# Altium integrated library NSC Legacy.IntLib: 687 symbols (part 10 of 17)
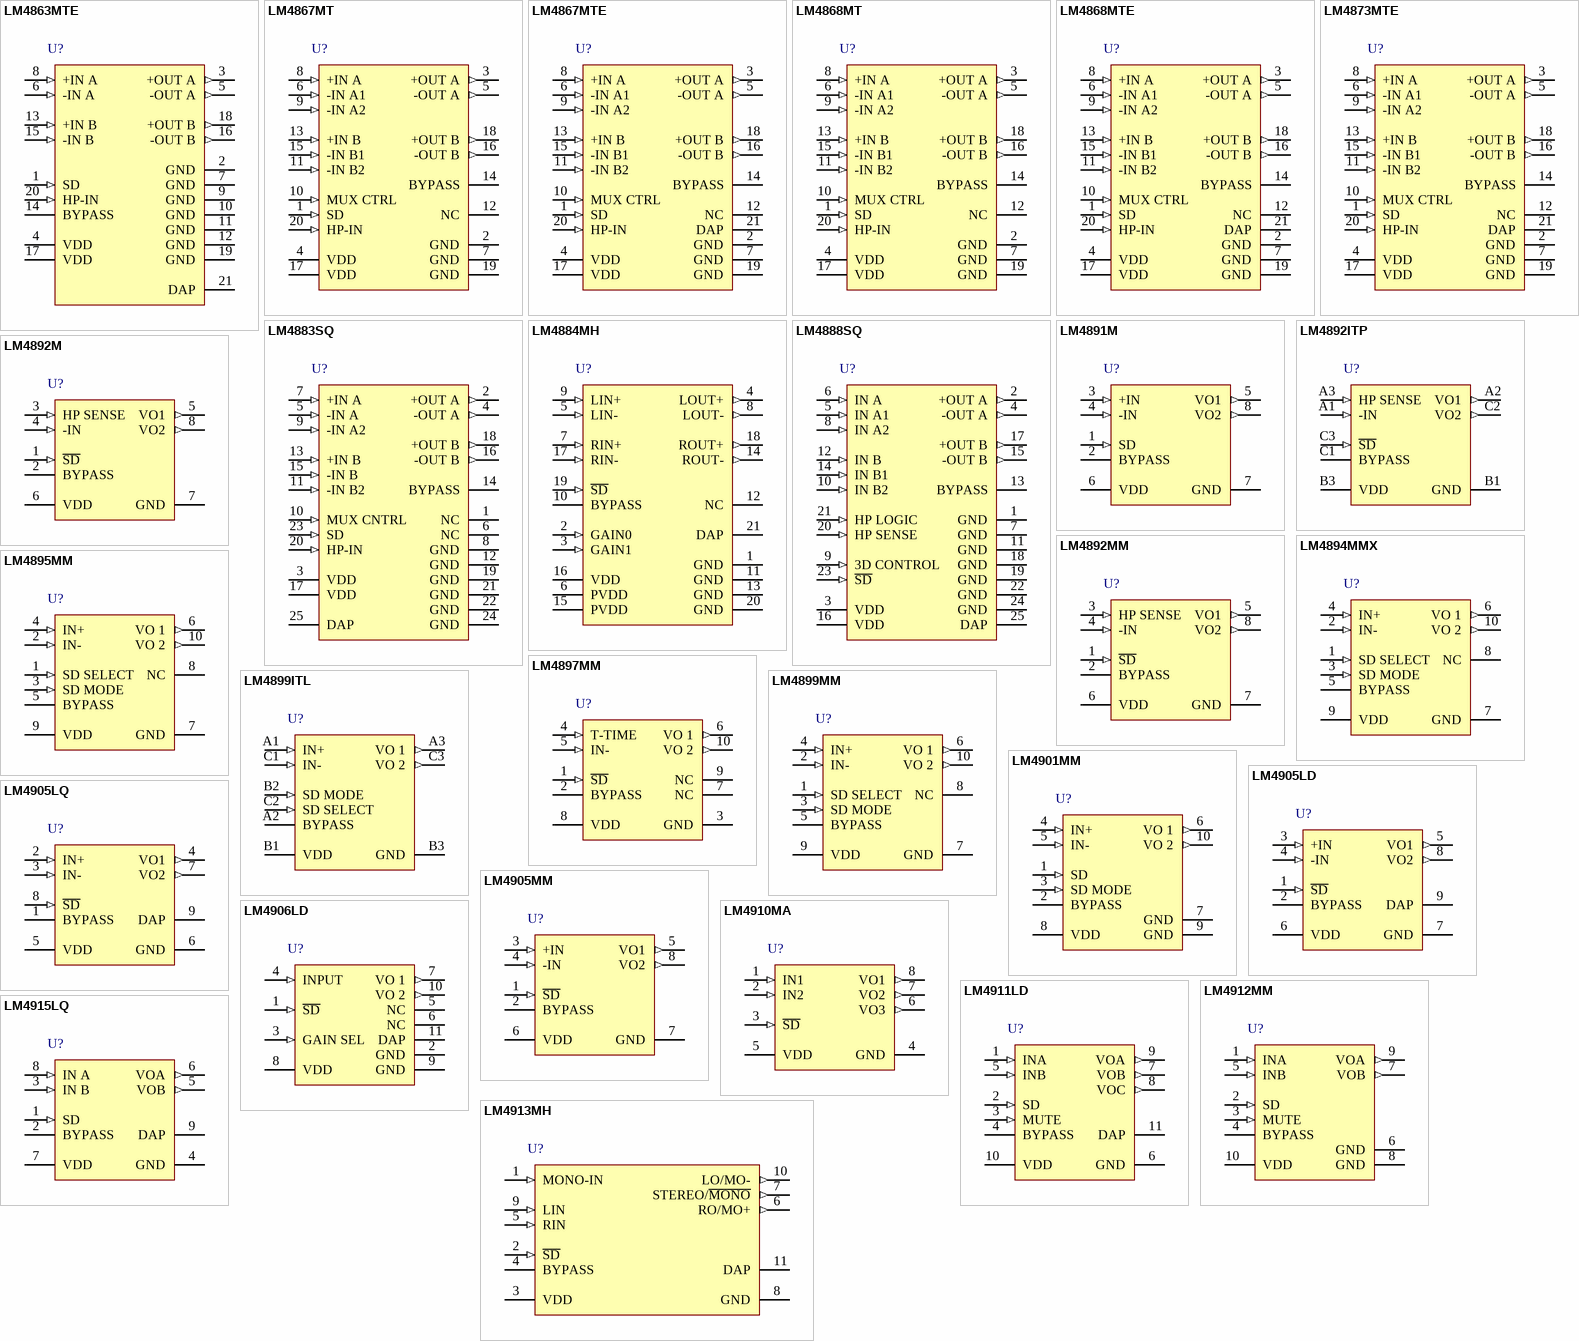
[diagram p33: symbols LM4863MTE to LM4915LQ]

## LM4905LQ
designator U?
1W Audio Power Amplifier, 9-pin LLP; PartNumber: LM4905LQ; Manufacturer: National Semiconductor; PackageTopMarking: XTT*GA6; CompType: Audio IC; Published: 4-Dec-2008; DatasheetVersion: Jul-2003; PackageVersion: revB, Nov-2002; PackageReference: LQB08A; Publisher: Altium Limited; PackageDescription: LLP, Plastic, Quad, 2 x 2 x 0.75mm Body, 8 Lead, 0.65mm Pitch; Supplier 1: Farnell; Supplier Part Number 1: 1312782; RoHS: Y; PinCount: 8; ComponentLink1Description: LM4905 Datasheet; ComponentLink1URL: http://www.national.com/ds/LM/LM4905.pdf; ComponentLink2Description: LM4905 Web Page; ComponentLink2URL: http://www.national.com/pf/LM/LM4905.html; ComponentLink3Description: LQB08A Package Page; ComponentLink3URL: http://www.national.com/packaging/folders/lqb08a.html
footprint LQB08A (PQFN, 8-Leads, Body 2x2mm, Pitch 0.65mm, NSC Recommended)
pins: 1 BYPASS, 2 IN+ (in), 3 IN- (in), 4 VO1 (out), 5 VDD (power), 6 GND (power), 7 VO2 (out), 8 ~{SD} (in), 9 DAP (power)

## LM4905MM
designator U?
1W Audio Power Amplifier, 8-pin Mini SOIC; PartNumber: LM4905MM; Manufacturer: National Semiconductor; PackageTopMarking: ZXTT*GB4; CompType: Audio IC; Published: 4-Dec-2008; DatasheetVersion: Jul-2003; PackageVersion: revF, Apr-2008; PackageReference: MUA08A; Publisher: Altium Limited; PackageDescription: MINI SOIC, .118 x .118 x .034in, 8 Lead, .0256in Pitch; Supplier 1: Farnell; Supplier Part Number 1: 1312783; RoHS: Y; PinCount: 8; Code_JEDEC: MO-187-AA; ComponentLink1Description: LM4905 Datasheet; ComponentLink1URL: http://www.national.com/ds/LM/LM4905.pdf; ComponentLink2Description: LM4905 Web Page; ComponentLink2URL: http://www.national.com/pf/LM/LM4905.html; ComponentLink3Description: MUA08A Package Page; ComponentLink3URL: http://www.national.com/packaging/folders/mua08a.html
footprint MUA08A_N (TSOP, 8-Leads, Body 3x3mm, Pitch 0.65mm, IPC Medium Density)
footprint MUA08A_L (TSOP, 8-Leads, Body 3x3mm, Pitch 0.65mm, IPC High Density)
footprint MUA08A_M (TSOP, 8-Leads, Body 3x3mm, Pitch 0.65mm, IPC Low Density)
pins: 1 ~{SD} (in), 2 BYPASS, 3 +IN (in), 4 -IN (in), 5 VO1 (out), 6 VDD (power), 7 GND (power), 8 VO2 (out)

## LM4906LD
designator U?
1W, Bypass-Capacitor-less Audio Power Amplifier with Internal Selectable Gain, 11-pin LLP; PartNumber: LM4906LD; Manufacturer: National Semiconductor; PackageTopMarking: ZXYTT*L4906; CompType: Audio IC; Published: 4-Dec-2008; DatasheetVersion: Jan-2005; PackageVersion: revB, Jun-2003; PackageReference: LDA10B; Publisher: Altium Limited; PackageDescription: LLP, Plastic, Dual, 3 x 4 x 0.75mm Body, 10 Lead, 0.5mm Pitch; RoHS: Y; PinCount: 10; Code_JEDEC: MO-229-WEGD; ComponentLink1Description: LM4906 Datasheet; ComponentLink1URL: http://www.national.com/ds/LM/LM4906.pdf; ComponentLink2Description: LM4906 Web Page; ComponentLink2URL: http://www.national.com/pf/LM/LM4906.html; ComponentLink3Description: LDA10B Package Page; ComponentLink3URL: http://www.national.com/packaging/folders/lda10b.html
footprint LDA10B (PSON, 10-Leads, Body 3x4mm, Pitch 0.5mm, NSC Recommended)
pins: 1 ~{SD} (in), 2 GND (power), 3 GAIN SEL (in), 4 INPUT (in), 5 NC, 6 NC, 7 VO 1 (out), 8 VDD (power), 9 GND (power), 10 VO 2 (out), 11 DAP (power)

## LM4910MA
designator U?
Output Capacitor-less Stereo 35mW Headphone Amplifier, 8-pin Narrow SOIC; PartNumber: LM4910MA; Manufacturer: National Semiconductor; PackageTopMarking: NSZXTT*LM49*10MA; CompType: Audio IC; Published: 4-Dec-2008; DatasheetVersion: Jan-2007; PackageVersion: revM, May-2009; PackageReference: M08A; Publisher: Altium Limited; PackageDescription: SOIC Narrow, 4.9 x 3.9 x 1.45mm, 8 Lead, 1.27mm Pitch; RoHS: Y; PinCount: 8; Code_JEDEC: MS-012-AA; Code_IPC: SOIC127P600-8; ComponentLink1Description: LM4910 Datasheet; ComponentLink1URL: http://www.national.com/ds/LM/LM4910.pdf; ComponentLink2Description: LM4910 Web Page; ComponentLink2URL: http://www.national.com/pf/LM/LM4910.html; ComponentLink3Description: M08A Package Page; ComponentLink3URL: http://www.national.com/packaging/folders/m08a.html
footprint M08A_N (SOIC, 8-Leads, Body 4.9x3.9mm, Pitch 1.27mm, IPC Medium Density)
footprint M08A_L (SOIC, 8-Leads, Body 4.9x3.9mm, Pitch 1.27mm, IPC High Density)
footprint M08A_M (SOIC, 8-Leads, Body 4.9x3.9mm, Pitch 1.27mm, IPC Low Density)
pins: 1 IN1 (in), 2 IN2 (in), 3 ~{SD} (in), 4 GND (power), 5 VDD (power), 6 VO3 (out), 7 VO2 (out), 8 VO1 (out)

## LM4911LD
designator U?
Stereo 40mW Low Noise Headphone Amplifier with Selectable Capacitive Coupled or OCL Output, 11-pin LLP; PartNumber: LM4911LD; Manufacturer: National Semiconductor; PackageTopMarking: ZXYTT*L4911; CompType: Audio IC; Published: 4-Dec-2008; DatasheetVersion: Jul-2008; PackageVersion: revB, Jan-2003; PackageReference: LDA10A; Publisher: Altium Limited; PackageDescription: LLP, Plastic, Dual, 3 x 3 x 0.75mm Body, 10 Lead, 0.5mm Pitch; RoHS: Y; PinCount: 10; ComponentLink1Description: LM4911 Datasheet; ComponentLink1URL: http://www.national.com/ds/LM/LM4911.pdf; ComponentLink2Description: LM4911 Web Page; ComponentLink2URL: http://www.national.com/pf/LM/LM4911.html; ComponentLink3Description: LDA10A Package Page; ComponentLink3URL: http://www.national.com/packaging/folders/lda10a.html
footprint LDA10A (PSON, 10-Leads, Body 3x3mm, Pitch 0.5mm, NSC Recommended)
pins: 1 INA (in), 2 SD (in), 3 MUTE (in), 4 BYPASS, 5 INB (in), 6 GND (power), 7 VOB (out), 8 VOC (out), 9 VOA (out), 10 VDD (power), 11 DAP (power)

## LM4912MM
designator U?
Stereo 40mW Low Noise Headphone Amplifier, 10-pin MSOP; PartNumber: LM4912MM; Manufacturer: National Semiconductor; PackageTopMarking: ZXTT*GA7; CompType: Audio IC; Published: 4-Dec-2008; DatasheetVersion: Jun-2008; PackageVersion: revB, Jul-2003; PackageReference: MUB10A; Publisher: Altium Limited; PackageDescription: Mini-SO, Molded, .118 x .118 x .034in Body, 10 Lead, .0197in Pitch; RoHS: Y; PinCount: 10; Code_JEDEC: MO-187-BA; ComponentLink1Description: LM4912 Datasheet; ComponentLink1URL: http://www.national.com/ds/LM/LM4912.pdf; ComponentLink2Description: LM4912 Web Page; ComponentLink2URL: http://www.national.com/pf/LM/LM4912.html; ComponentLink3Description: MUB10A Package Page; ComponentLink3URL: http://www.national.com/packaging/folders/mub10a.html
footprint MUB10A_N (TSSOP, 10-Leads, Body 3x3mm, Pitch 0.5mm, IPC Medium Density)
footprint MUB10A_L (TSSOP, 10-Leads, Body 3x3mm, Pitch 0.5mm, IPC High Density)
footprint MUB10A_M (TSSOP, 10-Leads, Body 3x3mm, Pitch 0.5mm, IPC Low Density)
pins: 1 INA (in), 2 SD (in), 3 MUTE (in), 4 BYPASS, 5 INB (in), 6 GND (power), 7 VOB (out), 8 GND (power), 9 VOA (out), 10 VDD (power)

## LM4913MH
designator U?
2W Monaural, 90mW Stereo Headphone Audio Amplifier, 11-pin TSSOP-EP; PartNumber: LM4913MH; Manufacturer: National Semiconductor; PackageTopMarking: ZXTT*4913; CompType: Audio IC; Published: 4-Dec-2008; DatasheetVersion: Apr-2008; PackageVersion: revA, Feb-2002; PackageReference: MXF10A; Publisher: Altium Limited; PackageDescription: Molded TSSOP, Exposed Pad, 3 x 3 x .85mm Body, 10 Lead, 0.5mm Pitch; RoHS: Y; PinCount: 10; Code_JEDEC: MO-187-BA; ComponentLink1Description: LM4913 Datasheet; ComponentLink1URL: http://www.national.com/ds/LM/LM4913.pdf; ComponentLink2Description: LM4913 Web Page; ComponentLink2URL: http://www.national.com/pf/LM/LM4913.html; ComponentLink3Description: MXF10A Package Page; ComponentLink3URL: http://www.national.com/packaging/folders/mxf10a.html
footprint MXF10A_N (TSSOP, 10-Leads, Body 3x3mm, Pitch 0.5mm, Exposed Pad, IPC Medium Density)
footprint MXF10A_L (TSSOP, 10-Leads, Body 3x3mm, Pitch 0.5mm, Exposed Pad, IPC High Density)
footprint MXF10A_M (TSSOP, 10-Leads, Body 3x3mm, Pitch 0.5mm, Exposed Pad, IPC Low Density)
pins: 1 MONO-IN (in), 2 ~{SD} (in), 3 VDD (power), 4 BYPASS, 5 RIN (in), 6 RO/MO+ (out), 7 STEREO/~{MONO} (out), 8 GND (power), 9 LIN (in), 10 LO/MO- (out), 11 DAP (power)

## LM4915LQ
designator U?
Pseudo-Differential Mono Headphone Amplifier with Fixed 6dB Gain, 9-pin LLP; PartNumber: LM4915LQ; Manufacturer: National Semiconductor; PackageTopMarking: XTT*GA5; CompType: Audio IC; Published: 4-Dec-2008; DatasheetVersion: May-2003; PackageVersion: revB, Nov-2002; PackageReference: LQB08A; Publisher: Altium Limited; PackageDescription: LLP, Plastic, Quad, 2 x 2 x 0.75mm Body, 8 Lead, 0.65mm Pitch; RoHS: Y; PinCount: 8; ComponentLink1Description: LM4915 Datasheet; ComponentLink1URL: http://www.national.com/ds/LM/LM4915.pdf; ComponentLink2Description: LM4915 Web Page; ComponentLink2URL: http://www.national.com/pf/LM/LM4915.html; ComponentLink3Description: LQB08A Package Page; ComponentLink3URL: http://www.national.com/packaging/folders/lqb08a.html
footprint LQB08A (PQFN, 8-Leads, Body 2x2mm, Pitch 0.65mm, NSC Recommended)
pins: 1 SD (in), 2 BYPASS, 3 IN B (in), 4 GND (power), 5 VOB (out), 6 VOA (out), 7 VDD (power), 8 IN A (in), 9 DAP (power)

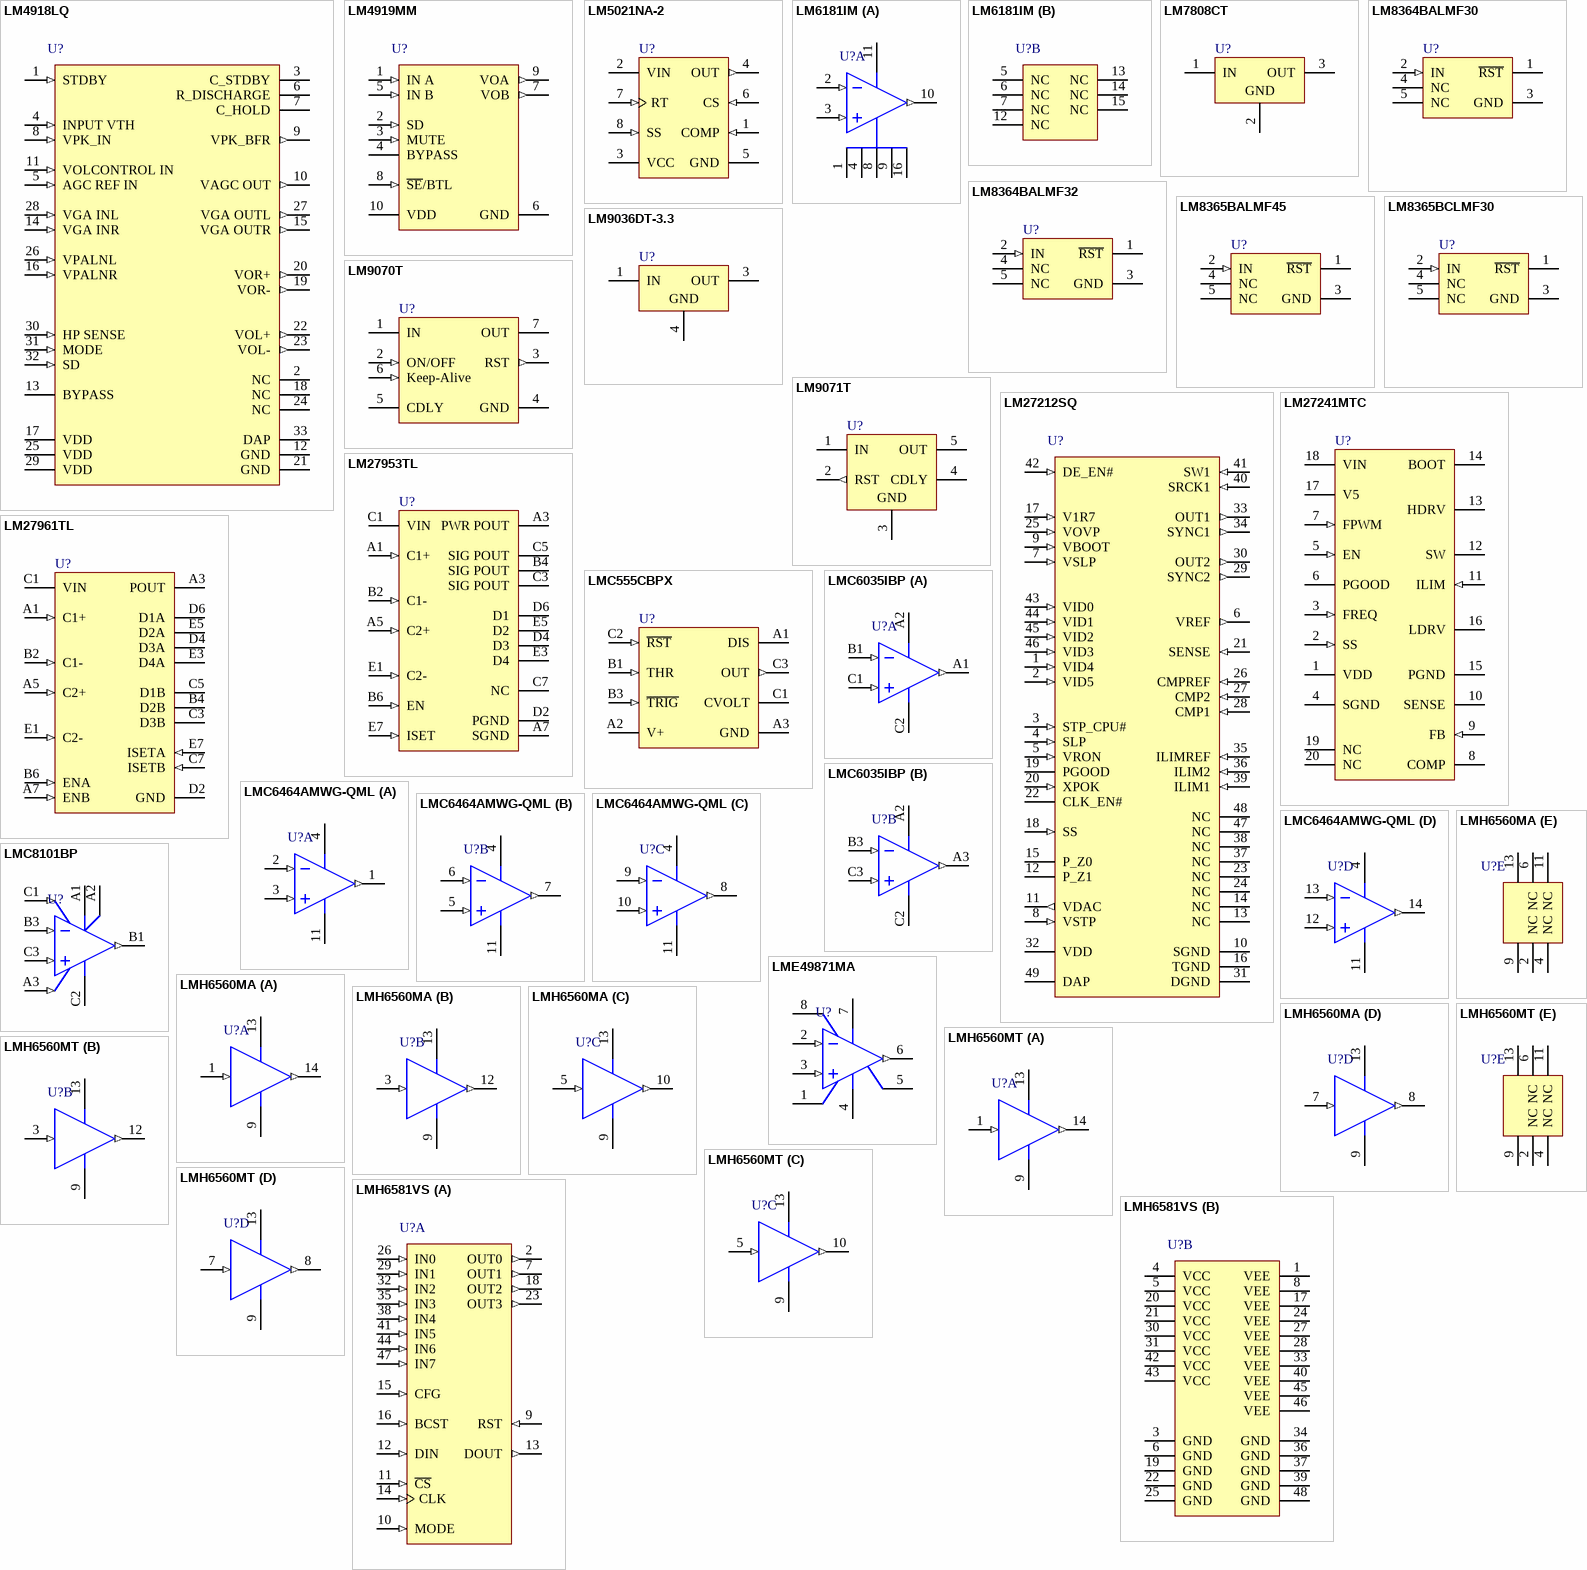
[diagram p15: symbols LM4918LQ to LMH6581VS]

## LM4918LQ
designator U?
Stereo Audio Amp with AGC Control, 33-pin LLP; PartNumber: LM4918LQ; Manufacturer: National Semiconductor; PackageTopMarking: NS*UZXYTT*L4918LQ; CompType: Audio IC; Published: 4-Dec-2008; DatasheetVersion: Feb-2004; PackageVersion: revA, Jun-2001; PackageReference: LQA32B; Publisher: Altium Limited; PackageDescription: LLP, Plastic, Quad, 6 x 5 x 0.8mm Body, 32 Lead, 0.5mm Pitch; Supplier 1: Farnell; Supplier Part Number 1: 8181179; RoHS: Y; PinCount: 32; Code_JEDEC: MO-220-WJHD; ComponentLink1Description: LM4918 Datasheet; ComponentLink1URL: http://www.national.com/ds/LM/LM4918.pdf; ComponentLink2Description: LM4918 Web Page; ComponentLink2URL: http://www.national.com/pf/LM/LM4918.html; ComponentLink3Description: LQA32B Package Page; ComponentLink3URL: http://www.national.com/packaging/folders/lqa32b.html
footprint LQA32B (PQFN, 32-Leads, Body 6x5mm, Pitch 0.5mm, NSC Recommended)
pins: 1 STDBY (in), 2 NC, 3 C_STDBY, 4 INPUT VTH (in), 5 AGC REF IN (in), 6 R_DISCHARGE, 7 C_HOLD, 8 VPK_IN (in), 9 VPK_BFR (out), 10 VAGC OUT (out), 11 VOLCONTROL IN (in), 12 GND (power), 13 BYPASS, 14 VGA INR (in), 15 VGA OUTR (out), 16 VPALNR (in), 17 VDD (power), 18 NC, 19 VOR- (out), 20 VOR+ (out), 21 GND (power), 22 VOL+ (out), 23 VOL- (out), 24 NC, 25 VDD (power), 26 VPALNL (in), 27 VGA OUTL (out), 28 VGA INL (in), 29 VDD (power), 30 HP SENSE (in), 31 MODE (in), 32 SD (in), 33 DAP (power)

## LM4919MM
designator U?
1.5V, Mono 85mW BTL Output, 14mW Stereo Headphone Audio Amplifier, 10-pin MSOP; PartNumber: LM4919MM; Manufacturer: National Semiconductor; PackageTopMarking: ZXTT*GB6; CompType: Audio IC; Published: 4-Dec-2008; DatasheetVersion: May-2004; PackageVersion: revB, Jul-2003; PackageReference: MUB10A; Publisher: Altium Limited; PackageDescription: Mini-SO, Molded, .118 x .118 x .034in Body, 10 Lead, .0197in Pitch; Supplier 1: Farnell; Supplier Part Number 1: 8181187; RoHS: Y; PinCount: 10; Code_JEDEC: MO-187-BA; ComponentLink1Description: LM4919 Datasheet; ComponentLink1URL: http://www.national.com/ds/LM/LM4919.pdf; ComponentLink2Description: LM4919 Web Page; ComponentLink2URL: http://www.national.com/pf/LM/LM4919.html; ComponentLink3Description: MUB10A Package Page; ComponentLink3URL: http://www.national.com/packaging/folders/mub10a.html
footprint MUB10A_N (TSSOP, 10-Leads, Body 3x3mm, Pitch 0.5mm, IPC Medium Density)
footprint MUB10A_L (TSSOP, 10-Leads, Body 3x3mm, Pitch 0.5mm, IPC High Density)
footprint MUB10A_M (TSSOP, 10-Leads, Body 3x3mm, Pitch 0.5mm, IPC Low Density)
pins: 1 IN A (in), 2 SD (in), 3 MUTE (in), 4 BYPASS, 5 IN B (in), 6 GND (power), 7 VOB (out), 8 ~{SE}/BTL (in), 9 VOA (out), 10 VDD (power)

## LM5021NA-2
designator U?
AC-DC Current Mode PWM Controller, 8-pin MDIP; PartNumber: LM5021NA-2; Manufacturer: National Semiconductor; PackageTopMarking: NSUZXYTT*LM5021NA*-2; CompType: MiscPower; Published: 4-Dec-2008; DatasheetVersion: Jun-2006; PackageVersion: revG, May-2006; PackageReference: N08E; Publisher: Altium Limited; PackageDescription: MDIP, .365 x .250 x .130in, 8 Lead, .100in Pitch; Supplier 1: Farnell; Supplier Part Number 1: 1286764; RoHS: Y; PinCount: 8; Code_JEDEC: MS-001-BA; ComponentLink1Description: LM5021 Datasheet; ComponentLink1URL: http://www.national.com/ds/LM/LM5021.pdf; ComponentLink2Description: LM5021 Web Page; ComponentLink2URL: http://www.national.com/pf/LM/LM5021.html; ComponentLink3Description: N08E Package Page; ComponentLink3URL: http://www.national.com/packaging/folders/n08e.html
footprint N08E (DIP, 8-Leads, Row Spacing 7.62mm, Pitch 2.54mm, Body 9.91x6.35mm)
pins: 1 COMP (in), 2 VIN (power), 3 VCC (power), 4 OUT (out), 5 GND (power), 6 CS (in), 7 RT (in), 8 SS (in)

## LM6181IM
designator U?
100 mA, 100 MHz Current Feedback Amplifier, 16-pin Narrow SOIC; PartNumber: LM6181IM; Manufacturer: National Semiconductor; PackageTopMarking: NSUZXYTT*LM6181IM; CompType: Amplifiers; Published: 4-Dec-2008; DatasheetVersion: May-1998; PackageVersion: revJ, Aug-1995; PackageReference: M16A; Publisher: Altium Limited; PackageDescription: Molded Package, SO, .150in Wide, 16 Lead; Supplier 1: Digi-Key; Supplier Part Number 1: LM6181IM-ND; Supplier 2: Farnell; Supplier Part Number 2: 9486488; RoHS: O; PinCount: 16; Code_JEDEC: MS-012-AC; Code_IPC: SOIC127P600-16; ComponentLink1Description: LM6181 Datasheet; ComponentLink1URL: http://www.national.com/ds/LM/LM6181.pdf; ComponentLink2Description: LM6181 Web Page; ComponentLink2URL: http://www.national.com/pf/LM/LM6181.html; ComponentLink3Description: M16A Package Page; ComponentLink3URL: http://www.national.com/packaging/folders/m16a.html
footprint M16A_N (SOIC, 16-Leads, Body 9.9x3.9mm, Pitch 1.27mm, IPC Medium Density)
footprint M16A_L (SOIC, 16-Leads, Body 9.9x3.9mm, Pitch 1.27mm, IPC High Density)
footprint M16A_M (SOIC, 16-Leads, Body 9.9x3.9mm, Pitch 1.27mm, IPC Low Density)
part A pins: 1 V- (power), 2 IN- (in), 3 IN+ (in), 4 V- (power), 8 V- (power), 9 V- (power), 10 OUT (out), 11 V+ (power), 16 V- (power)
part B pins: 5 NC, 6 NC, 7 NC, 12 NC, 13 NC, 14 NC, 15 NC

## LM7808CT
designator U?
Series 3-Terminal Positive Regulators, 3-pin TO-220; PartNumber: LM7808CT; Manufacturer: National Semiconductor; PackageTopMarking: NSUZXYTTE#*LM7808CT; CompType: LDO IC; Published: 4-Dec-2008; DatasheetVersion: Jul-2006; PackageVersion: revL, Jan-1992; PackageReference: T03B; Publisher: Altium Limited; PackageDescription: TO-220, Molded, 3 Lead, Straight; Supplier 1: Farnell; Supplier Part Number 1: 9490248; RoHS: O; PinCount: 3; ComponentLink1Description: LM340 Datasheet; ComponentLink1URL: http://www.national.com/ds/LM/LM340.pdf; ComponentLink2Description: LM340 Web Page; ComponentLink2URL: http://www.national.com/pf/LM/LM340.html; ComponentLink3Description: T03B Package Page; ComponentLink3URL: http://www.national.com/packaging/folders/t03b.html
footprint T03B (TO, Thru-Hole, Vertical, Heatsink Mounted; 3 In-Line Leads; Pitch 2.54 mm)
pins: 1 IN (power), 2 GND (power), 3 OUT (power)

## LM8364BALMF30
designator U?
Micropower Undervoltage Sensing Circuits, Open Drain Active Low Output, 3.0V Threshold, 5-pin SOT-23; PartNumber: LM8364BALMF30; Manufacturer: National Semiconductor; PackageTopMarking: F05A*XTT; PowerWise: N; CompType: MiscPower; Published: 29-May-2009; DatasheetVersion: Mar-2005; PackageVersion: revD, Aug-2008; PackageReference: MF05A; Publisher: Altium Limited; PackageDescription: Molded SOT-23, .115 x .063 x .040 in Body, 5 Lead, .0375 in Pitch; Supplier 1: Farnell; Supplier Part Number 1: 9779493; RoHS: Y; PinCount: 5; ComponentLink1Description: LM8364 Datasheet; ComponentLink1URL: http://www.national.com/ds/LM/LM8364.pdf; ComponentLink2Description: LM8364 Web Page; ComponentLink2URL: http://www.national.com/mpf/LM/LM8364.html; ComponentLink3Description: MF05A Package Page; ComponentLink3URL: http://www.national.com/packaging/folders/mf05a.html
footprint MF05A_N (SOT23, 5-Leads, Body 2.9x1.6mm, Pitch 0.95mm, Lead Span 2.8mm, IPC Medium Density)
footprint MF05A_L (SOT23, 5-Leads, Body 2.9x1.6mm, Pitch 0.95mm, Lead Span 2.8mm, IPC High Density)
footprint MF05A_M (SOT23, 5-Leads, Body 2.9x1.6mm, Pitch 0.95mm, Lead Span 2.8mm, IPC Low Density)
pins: 1 ~{RST} (oc), 2 IN (in), 3 GND (power), 4 NC, 5 NC

## LM8364BALMF32
designator U?
Micropower Undervoltage Sensing Circuits, Open Drain Active Low Output, 3.2V Threshold, 5-pin SOT-23; PartNumber: LM8364BALMF32; Manufacturer: National Semiconductor; PackageTopMarking: F16A*XTT; PowerWise: N; CompType: MiscPower; Published: 4-Dec-2008; DatasheetVersion: Mar-2005; PackageVersion: revD, Aug-2008; PackageReference: MF05A; Publisher: Altium Limited; PackageDescription: Molded SOT-23, .115 x .063 x .040 in Body, 5 Lead, .0375 in Pitch; RoHS: Y; PinCount: 5; ComponentLink1Description: LM8364 Datasheet; ComponentLink1URL: http://www.national.com/ds/LM/LM8364.pdf; ComponentLink2Description: LM8364 Web Page; ComponentLink2URL: http://www.national.com/mpf/LM/LM8364.html; ComponentLink3Description: MF05A Package Page; ComponentLink3URL: http://www.national.com/packaging/folders/mf05a.html
footprint MF05A_N (SOT23, 5-Leads, Body 2.9x1.6mm, Pitch 0.95mm, Lead Span 2.8mm, IPC Medium Density)
footprint MF05A_L (SOT23, 5-Leads, Body 2.9x1.6mm, Pitch 0.95mm, Lead Span 2.8mm, IPC High Density)
footprint MF05A_M (SOT23, 5-Leads, Body 2.9x1.6mm, Pitch 0.95mm, Lead Span 2.8mm, IPC Low Density)
pins: 1 ~{RST} (oc), 2 IN (in), 3 GND (power), 4 NC, 5 NC

## LM8365BALMF45
designator U?
Micropower Undervoltage Sensing Circuits with Programmable Output Delay, 4.5V Threshold, 5-pin SOT-23; PartNumber: LM8365BALMF45; Manufacturer: National Semiconductor; PackageTopMarking: F06A*XTT; PowerWise: N; CompType: MiscPower; Published: 29-May-2009; DatasheetVersion: Mar-2005; PackageVersion: revD, Aug-2008; PackageReference: MF05A; Publisher: Altium Limited; PackageDescription: Molded SOT-23, .115 x .063 x .040 in Body, 5 Lead, .0375 in Pitch; Supplier 1: Farnell; Supplier Part Number 1: 9779540; RoHS: Y; PinCount: 5; ComponentLink1Description: LM8365 Datasheet; ComponentLink1URL: http://www.national.com/ds/LM/LM8365.pdf; ComponentLink2Description: LM8365 Web Page; ComponentLink2URL: http://www.national.com/mpf/LM/LM8365.html; ComponentLink3Description: MF05A Package Page; ComponentLink3URL: http://www.national.com/packaging/folders/mf05a.html
footprint MF05A_N (SOT23, 5-Leads, Body 2.9x1.6mm, Pitch 0.95mm, Lead Span 2.8mm, IPC Medium Density)
footprint MF05A_L (SOT23, 5-Leads, Body 2.9x1.6mm, Pitch 0.95mm, Lead Span 2.8mm, IPC High Density)
footprint MF05A_M (SOT23, 5-Leads, Body 2.9x1.6mm, Pitch 0.95mm, Lead Span 2.8mm, IPC Low Density)
pins: 1 ~{RST} (oc), 2 IN (in), 3 GND (power), 4 NC, 5 NC

## LM8365BCLMF30
designator U?
Micropower Undervoltage Sensing Circuits with Programmable Output Delay, 3.0V Threshold, 5-pin SOT-23; PartNumber: LM8365BCLMF30; Manufacturer: National Semiconductor; PackageTopMarking: F02A*XTT; PowerWise: N; CompType: MiscPower; Published: 29-May-2009; DatasheetVersion: Mar-2005; PackageVersion: revD, Aug-2008; PackageReference: MF05A; Publisher: Altium Limited; PackageDescription: Molded SOT-23, .115 x .063 x .040 in Body, 5 Lead, .0375 in Pitch; Supplier 1: Farnell; Supplier Part Number 1: 9779531; RoHS: O; PinCount: 5; ComponentLink1Description: LM8365 Datasheet; ComponentLink1URL: http://www.national.com/ds/LM/LM8365.pdf; ComponentLink2Description: LM8365 Web Page; ComponentLink2URL: http://www.national.com/mpf/LM/LM8365.html; ComponentLink3Description: MF05A Package Page; ComponentLink3URL: http://www.national.com/packaging/folders/mf05a.html
footprint MF05A_N (SOT23, 5-Leads, Body 2.9x1.6mm, Pitch 0.95mm, Lead Span 2.8mm, IPC Medium Density)
footprint MF05A_L (SOT23, 5-Leads, Body 2.9x1.6mm, Pitch 0.95mm, Lead Span 2.8mm, IPC High Density)
footprint MF05A_M (SOT23, 5-Leads, Body 2.9x1.6mm, Pitch 0.95mm, Lead Span 2.8mm, IPC Low Density)
pins: 1 ~{RST} (oc), 2 IN (in), 3 GND (power), 4 NC, 5 NC

## LM9036DT-3.3
designator U?
Ultra-Low Quiescent Current Voltage Regulator, 3-pin TO-252; PartNumber: LM9036DT-3.3; Manufacturer: National Semiconductor; PackageTopMarking: NSUZXYTT*LM9036D*T-3.3; CompType: LDO IC; Published: 4-Dec-2008; DatasheetVersion: Jul-2008; PackageVersion: revD, Feb-2009; PackageReference: TD03B; Publisher: Altium Limited; PackageDescription: TO252, Molded, Jedec, 6.8 x 6.10 x 2.30mm Body, 3 Lead, 2.28mm Pitch, Surface Mount; Supplier 1: Digi-Key; Supplier Part Number 1: LM9036DT-3.3-ND; RoHS: N; PinCount: 3; Code_JEDEC: TO-252-AA; ComponentLink1Description: LM9036 Datasheet; ComponentLink1URL: http://www.national.com/ds/LM/LM9036.pdf; ComponentLink2Description: LM9036 Web Page; ComponentLink2URL: http://www.national.com/pf/LM/LM9036.html; ComponentLink3Description: TD03B Package Page; ComponentLink3URL: http://www.national.com/packaging/folders/td03b.html
footprint TD03B_N (D-PAK, 4-Leads, Body 6.1x6.6mm, Pitch 2.29mm, Lead Span 9.7mm, IPC Medium Density)
footprint TD03B_L (D-PAK, 4-Leads, Body 6.1x6.6mm, Pitch 2.29mm, Lead Span 9.7mm, IPC High Density)
footprint TD03B_M (D-PAK, 4-Leads, Body 6.1x6.6mm, Pitch 2.29mm, Lead Span 9.7mm, IPC Low Density)
pins: 1 IN (power), 3 OUT (power), 4 GND (power)

## LM9070T
designator U?
Low-Dropout System Voltage Regulator with Keep-Alive ON/OFF Control, 7-pin TO-220; PartNumber: LM9070T; Manufacturer: National Semiconductor; PackageTopMarking: NSUZXYTTE#*LM9070T; CompType: LDO IC; Published: 4-Dec-2008; DatasheetVersion: Mar-2005; PackageVersion: revC, Apr-1999; PackageReference: TA07B; Publisher: Altium Limited; PackageDescription: TO-220, Molded, .400 x .590 x .180in Body, 7 Lead, .050in Pitch, Staggered; RoHS: Y; PinCount: 7; Code_JEDEC: TO-220-AB; ComponentLink1Description: LM9070 Datasheet; ComponentLink1URL: http://www.national.com/ds/LM/LM9070.pdf; ComponentLink2Description: LM9070 Web Page; ComponentLink2URL: http://www.national.com/pf/LM/LM9070.html; ComponentLink3Description: TA07B Package Page; ComponentLink3URL: http://www.national.com/packaging/folders/ta07b.html
footprint TA07B (TO, Thru-Hole, Vertical, Heatsink Mounted; 7 Bent Staggered Leads; Body 10.2x8.7x4.6mm, Pitch 1.27 mm)
pins: 1 IN (power), 2 ON/OFF (in), 3 RST (out), 4 GND (power), 5 CDLY, 6 Keep-Alive (in), 7 OUT (power)

## LM9071T
designator U?
Low-Dropout System Voltage Regulator with Delayed Rest, 5-pin TO-220; PartNumber: LM9071T; Manufacturer: National Semiconductor; PackageTopMarking: NSUZXYTTE#*LM9071T; CompType: LDO IC; Published: 4-Dec-2008; DatasheetVersion: Mar-2001; PackageVersion: revJ, Jan-1992; PackageReference: T05A; Publisher: Altium Limited; PackageDescription: TO-220, Molded, 5 Lead, Straight; RoHS: O; PinCount: 5; Code_JEDEC: TO-220-AB; ComponentLink1Description: LM9071 Datasheet; ComponentLink1URL: http://www.national.com/ds/LM/LM9071.pdf; ComponentLink2Description: LM9071 Web Page; ComponentLink2URL: http://www.national.com/pf/LM/LM9071.html; ComponentLink3Description: T05A Package Page; ComponentLink3URL: http://www.national.com/packaging/folders/t05a.html
footprint T05A (TO, Thru-Hole, Vertical, Heatsink Mounted; 5 In-Line Leads; Pitch 1.70 mm)
pins: 1 IN (power), 2 RST (out), 3 GND (power), 4 CDLY, 5 OUT (power)

## LM27212SQ
designator U?
Two-Phase Current-Mode Hysteretic Buck Controller, 48-pin LLP; PartNumber: LM27212SQ; Manufacturer: National Semiconductor; PackageTopMarking: NS*UZXYTT*27212SQ; CompType: MiscPower; Published: 4-Dec-2008; DatasheetVersion: Mar-2006; PackageVersion: revB, May-2009; PackageReference: SQA48A; Publisher: Altium Limited; PackageDescription: LLP, Plastic, Quad, 7 x 7 x 0.8mm Body, 48 Lead, 0.5mm Pitch, No Pullback; RoHS: Y; PinCount: 48; Code_JEDEC: MO-220-WKKD-2; ComponentLink1Description: LM27212 Datasheet; ComponentLink1URL: http://www.national.com/ds/LM/LM27212.pdf; ComponentLink2Description: LM27212 Web Page; ComponentLink2URL: http://www.national.com/pf/LM/LM27212.html; ComponentLink3Description: SQA48A Package Page; ComponentLink3URL: http://www.national.com/packaging/folders/sqa48a.html
footprint SQA48A (QFN, 48-Leads, Body 7x7mm, Pitch 0.5mm, NSC Recommended)
pins: 1 VID4 (in), 2 VID5 (in), 3 STP_CPU# (in), 4 SLP (in), 5 VRON (in), 6 VREF (out), 7 VSLP (in), 8 VSTP (in), 9 VBOOT (in), 10 SGND (power), 11 VDAC (out), 12 P_Z1, 13 NC, 14 NC, 15 P_Z0, 16 TGND (power), 17 V1R7 (in), 18 SS (in), 19 PGOOD (oc), 20 XPOK (in), 21 SENSE (in), 22 CLK_EN# (oc), 23 NC, 24 NC, 25 VOVP (in), 26 CMPREF (in), 27 CMP2 (in), 28 CMP1 (in), 29 SYNC2 (out), 30 OUT2 (out), 31 DGND (power), 32 VDD (power), 33 OUT1 (out), 34 SYNC1 (out), 35 ILIMREF (in), 36 ILIM2 (in), 37 NC, 38 NC, 39 ILIM1 (in), 40 SRCK1 (in), 41 SW1 (in), 42 DE_EN# (in), 43 VID0 (in), 44 VID1 (in), 45 VID2 (in), 46 VID3 (in), 47 NC, 48 NC, 49 DAP (power)

## LM27241MTC
designator U?
Synchronous Buck Regulator Controller for Mobile Systems, 20-pin TSSOP; PartNumber: LM27241MTC; Manufacturer: National Semiconductor; PackageTopMarking: NSUZXYTT*LM27241*MTC; PowerWise: N; CompType: Switcher; Published: 4-Dec-2008; DatasheetVersion: May-2005; PackageVersion: revE, Mar-2003; PackageReference: MTC20; Publisher: Altium Limited; PackageDescription: Molded TSSOP, Jedec, 6.5 x 4.4 x 0.9mm Body, 20 Lead, 0.65mm Pitch; Supplier 1: Farnell; Supplier Part Number 1: 1008004; RoHS: Y; PinCount: 20; Code_JEDEC: MO-153-AC; ComponentLink1Description: LM27241 Datasheet; ComponentLink1URL: http://www.national.com/ds/LM/LM27241.pdf; ComponentLink2Description: LM27241 Web Page; ComponentLink2URL: http://www.national.com/pf/LM/LM27241.html; ComponentLink3Description: MTC20 Package Page; ComponentLink3URL: http://www.national.com/packaging/folders/mtc20.html
footprint MTC20_N (TSOP, 20-Leads, Body 6.5x4.4mm, Pitch 0.65mm, IPC Medium Density)
footprint MTC20_L (TSOP, 20-Leads, Body 6.5x4.4mm, Pitch 0.65mm, IPC High Density)
footprint MTC20_M (TSOP, 20-Leads, Body 6.5x4.4mm, Pitch 0.65mm, IPC Low Density)
pins: 1 VDD (power), 2 SS (in), 3 FREQ (in), 4 SGND (power), 5 EN (in), 6 PGOOD (oc), 7 FPWM (in), 8 COMP, 9 FB (in), 10 SENSE, 11 ILIM (in), 12 SW (power), 13 HDRV (power), 14 BOOT, 15 PGND (power), 16 LDRV (power), 17 V5 (power), 18 VIN (power), 19 NC, 20 NC

## LM27953TL
designator U?
White LED Driver with Four LED Current Sinks and 3/2x Switched Capacitor Boost, 18-pin Micro SMD; PartNumber: LM27953TL; Manufacturer: National Semiconductor; PackageTopMarking: XYTT*I SHPB; CompType: Switcher; Published: 4-Dec-2008; DatasheetVersion: Nov-2004; PackageVersion: revD, Jan-2005; PackageReference: TLA18EHA; Publisher: Altium Limited; PackageDescription: Thin Micro SMD, 18 Bump (Large), 0.5mm Pitch; Supplier 1: Farnell; Supplier Part Number 1: 1008005; RoHS: Y; PinCount: 18; ComponentLink1Description: LM27953 Datasheet; ComponentLink1URL: http://www.national.com/ds/LM/LM27953.pdf; ComponentLink2Description: LM27953 Web Page; ComponentLink2URL: http://www.national.com/pf/LM/LM27953.html; ComponentLink3Description: TLA18EHA Package Page; ComponentLink3URL: http://www.national.com/packaging/folders/tla18eha.html
footprint TLA18EHA (Micro SMD, 18-Leads, Body 2.4x2.1mm, Pitch 0.5mm, NSC Recommended)
pins: A1 C1+ (in), A3 PWR POUT (power), A5 C2+ (in), A7 SGND (power), B2 C1- (in), B4 SIG POUT (power), B6 EN (in), C1 VIN (power), C3 SIG POUT (power), C5 SIG POUT (power), C7 NC, D2 PGND (power), D4 D3 (oc), D6 D1 (oc), E1 C2- (in), E3 D4 (oc), E5 D2 (oc), E7 ISET (in)

## LM27961TL
designator U?
Dual-Display White LED Driver with 3/2x Switched Capacitor Boost, 18-pin Micro SMD; PartNumber: LM27961TL; Manufacturer: National Semiconductor; PackageTopMarking: XYTT*I SECB; CompType: Switch Caps; Published: 4-Dec-2008; DatasheetVersion: Nov-2004; PackageVersion: revD, Jan-2005; PackageReference: TLA18EHA; Publisher: Altium Limited; PackageDescription: Thin Micro SMD, 18 Bump (Large), 0.5mm Pitch; Supplier 1: Farnell; Supplier Part Number 1: 1008007; RoHS: Y; PinCount: 18; ComponentLink1Description: LM27961 Datasheet; ComponentLink1URL: http://www.national.com/ds/LM/LM27961.pdf; ComponentLink2Description: LM27961 Web Page; ComponentLink2URL: http://www.national.com/pf/LM/LM27961.html; ComponentLink3Description: TLA18EHA Package Page; ComponentLink3URL: http://www.national.com/packaging/folders/tla18eha.html
footprint TLA18EHA (Micro SMD, 18-Leads, Body 2.4x2.1mm, Pitch 0.5mm, NSC Recommended)
pins: A1 C1+ (in), A3 POUT (power), A5 C2+ (in), A7 ENB (in), B2 C1- (in), B4 D2B (oc), B6 ENA (in), C1 VIN (power), C3 D3B (oc), C5 D1B (oc), C7 ISETB (in), D2 GND (power), D4 D3A (oc), D6 D1A (oc), E1 C2- (in), E3 D4A (oc), E5 D2A (oc), E7 ISETA (in)

## LMC555CBPX
designator U?
CMOS Timer, 8-pin Micro SMD; PartNumber: LMC555CBPX; Manufacturer: National Semiconductor; PackageTopMarking: XVF*I 1; CompType: Analog IC; Published: 4-Dec-2008; DatasheetVersion: May-2006; PackageVersion: revC, Feb-2002; PackageReference: BPA08EFB; Publisher: Altium Limited; PackageDescription: Micro SMD, 8 Bump, 0.5mm Pitch; PinCount: 8; Code_JEDEC: MO-211-BC; ComponentLink1Description: LMC555 Datasheet; ComponentLink1URL: http://www.national.com/ds/LM/LMC555.pdf; ComponentLink2Description: LMC555 Web Page; ComponentLink2URL: http://www.national.com/pf/LM/LMC555.html; ComponentLink3Description: BPA08EFB package page; ComponentLink3URL: http://www.national.com/packaging/folders/bpa08efb.html
footprint BPA08EFB (Micro SMD, 8-Leads, Body 1.41x1.39mm, Pitch 0.5mm, NSC Recommended)
pins: A1 DIS (oc), A2 V+ (power), A3 GND (power), B1 THR (in), B3 ~{TRIG} (in), C1 CVOLT, C2 ~{RST} (in), C3 OUT (out)

## LMC6035IBP
designator U?
Low Power 2.7V Single Supply CMOS Operational Amplifiers, 8-pin Micro SMD; PartNumber: LMC6035IBP; Manufacturer: National Semiconductor; PackageTopMarking: XVA*I 1; Published: 4-Dec-2008; LatestRevisionDate: 13-Jan-2009; LatestRevisionNote: Sim Model Added.; DatasheetVersion: Oct-2002; PackageVersion: revC, Feb-2002; PackageReference: BPA08FFB; Publisher: Altium Limited; PackageDescription: Micro SMD, 8 Bump, 0.5mm Pitch; Supplier 1: Digi-Key; Supplier Part Number 1: LMC6035IBPTR-ND; Supplier 2: Digi-Key; Supplier Part Number 2: LMC6035IBPCT-ND; Supplier 3: Digi-Key; Supplier Part Number 3: LMC6035IBPDKR-ND; RoHS: N; PinCount: 8; CompType: Amplifiers; Code_JEDEC: MO-211-BC; ComponentLink1Description: LMC6035 Datasheet; ComponentLink1URL: http://www.national.com/ds/LM/LMC6035.pdf; ComponentLink2Description: LMC6035 Web Page; ComponentLink2URL: http://www.national.com/pf/LM/LMC6035.html; ComponentLink3Description: BPA08FFB Package Page; ComponentLink3URL: http://www.national.com/packaging/folders/bpa08ffb.html
footprint BPA08FFB (Micro SMD, 8-Leads, Body 1.41x1.41mm, Pitch 0.5mm, NSC Recommended)
simulation model LMC6035 (SUBCKT)
pins on every part: A2 V+ (power), C2 V- (power)
part A pins: A1 OUTA (out), B1 INA- (in), C1 INA+ (in)
part B pins: A3 OUTB (out), B3 INB- (in), C3 INB+ (in)

## LMC6464AMWG-QML
designator U?
Quad Micropower, Rail-to-Rail Input and Output CMOS Operational Amplifier, 14-pin CerPACK; PartNumber: LMC6464AMWG-QML; Manufacturer: National Semiconductor; PackageTopMarking: NSZSSXXYYA*LMC6464AMWG*-QML 5962-*9560302QXA Q; CompType: Amplifiers; Published: 4-Dec-2008; DatasheetVersion: Feb-2004; PackageVersion: revD, Jul-2007; PackageReference: WG14A; Publisher: Altium Limited; PackageDescription: Cerpack, .390 x .250 x .070in, 14 Lead, .050in Pitch, Gull Wing; RoHS: N; PinCount: 14; ComponentLink1Description: LMC6464 Datasheet; ComponentLink1URL: http://www.national.com/ds/LM/LMC6464.pdf; ComponentLink2Description: LMC6464 Web Page; ComponentLink2URL: http://www.national.com/pf/LM/LMC6464.html; ComponentLink3Description: WG14A Package Page; ComponentLink3URL: http://www.national.com/packaging/folders/wg14a.html
footprint WG14A_N (CERPACK, 14-Leads, Body 9.9x6.5mm, Pitch 1.27mm, IPC Medium Density)
footprint WG14A_L (CERPACK, 14-Leads, Body 9.9x6.5mm, Pitch 1.27mm, IPC High Density)
footprint WG14A_M (CERPACK, 14-Leads, Body 9.9x6.5mm, Pitch 1.27mm, IPC Low Density)
pins on every part: 4 V+ (power), 11 V- (power)
part A pins: 1 OUTA (out), 2 INA- (in), 3 INA+ (in)
part B pins: 5 INB+ (in), 6 INB- (in), 7 OUTB (out)
part C pins: 8 OUTC (out), 9 INC- (in), 10 INC+ (in)
part D pins: 12 IND+ (in), 13 IND- (in), 14 OUTD (out)

## LMC8101BP
designator U?
Rail-to-Rail Input and Output, 2.7V Op Amp with Shutdown, 8-pin Micro SMD; PartNumber: LMC8101BP; Manufacturer: National Semiconductor; PackageTopMarking: XVA*I 2; CompType: Amplifiers; Published: 4-Dec-2008; LatestRevisionDate: 13-Jan-2009; LatestRevisionNote: Sim Model Added.; DatasheetVersion: May-2004; PackageVersion: revC, Feb-2002; PackageReference: BPA08FFB; Publisher: Altium Limited; PackageDescription: Micro SMD, 8 Bump, 0.5mm Pitch; Supplier 1: Digi-Key; Supplier Part Number 1: LMC8101BPTR-ND; Supplier 2: Digi-Key; Supplier Part Number 2: LMC8101BPCT-ND; Supplier 3: Digi-Key; Supplier Part Number 3: LMC8101BPDKR-ND; RoHS: N; PinCount: 8; Code_JEDEC: MO-211-BC; ComponentLink1Description: LMC8101 Datasheet; ComponentLink1URL: http://www.national.com/ds/LM/LMC8101.pdf; ComponentLink2Description: LMC8101 Web Page; ComponentLink2URL: http://www.national.com/pf/LM/LMC8101.html; ComponentLink3Description: BPA08FFB Package Page; ComponentLink3URL: http://www.national.com/packaging/folders/bpa08ffb.html
footprint BPA08FFB (Micro SMD, 8-Leads, Body 1.41x1.41mm, Pitch 0.5mm, NSC Recommended)
simulation model LMC8101 (SUBCKT)
pins: A1 V+ (power), A2 V+ (power), A3 SL (in), B1 OUT (out), B3 IN- (in), C1 SD (in), C2 V- (power), C3 IN+ (in)

## LME49871MA
designator U?
High Performance, High Fidelity Current Feedback Audio Operational Amplifier, 8-pin Narrow SOIC; PartNumber: LME49871MA; Manufacturer: National Semiconductor; PackageTopMarking: NSZXTT*L49871*MA; PowerWise: N; CompType: Audio IC; Published: 4-Dec-2008; DatasheetVersion: Apr-2008; PackageVersion: revM, May-2009; PackageReference: M08A; Publisher: Altium Limited; PackageDescription: SOIC Narrow, 4.9 x 3.9 x 1.45mm, 8 Lead, 1.27mm Pitch; RoHS: Y; PinCount: 8; Code_JEDEC: MS-012-AA; Code_IPC: SOIC127P600-8; ComponentLink1Description: LME49871 Datasheet; ComponentLink1URL: http://www.national.com/ds/LM/LME49871.pdf; ComponentLink2Description: LME49871 Web Page; ComponentLink2URL: http://www.national.com/pf/LM/LME49871.html; ComponentLink3Description: M08A Package Page; ComponentLink3URL: http://www.national.com/packaging/folders/m08a.html
footprint M08A_N (SOIC, 8-Leads, Body 4.9x3.9mm, Pitch 1.27mm, IPC Medium Density)
footprint M08A_L (SOIC, 8-Leads, Body 4.9x3.9mm, Pitch 1.27mm, IPC High Density)
footprint M08A_M (SOIC, 8-Leads, Body 4.9x3.9mm, Pitch 1.27mm, IPC Low Density)
pins: 1 NC, 2 -IN (in), 3 +IN (in), 4 V- (power), 5 NC, 6 OUTPUT (out), 7 V+ (power), 8 NC

## LMH6560MA
designator U?
Quad, High-Speed, Closed-Loop Buffer, 14-pin Narrow SOIC; PartNumber: LMH6560MA; Manufacturer: National Semiconductor; PackageTopMarking: NSUZXYTT*LMH65*60MA; PowerWise: N; CompType: Amplifiers; Published: 4-Dec-2008; DatasheetVersion: Dec-2004; PackageVersion: revJ, Jan-1996; PackageReference: M14A; Publisher: Altium Limited; PackageDescription: Molded Package S.O., .150in Wide, 14 Lead; Supplier 1: Farnell; Supplier Part Number 1: 8181012; RoHS: O; PinCount: 14; Code_JEDEC: MS-012AB; Code_IPC: SOIC127P600-14; ComponentLink1Description: LMH6560 Datasheet; ComponentLink1URL: http://www.national.com/ds/LM/LMH6560.pdf; ComponentLink2Description: LMH6560 Web Page; ComponentLink2URL: http://www.national.com/pf/LM/LMH6560.html; ComponentLink3Description: M14A Package Page; ComponentLink3URL: http://www.national.com/packaging/folders/m14a.html
footprint M14A_N (SOIC, 14-Leads, Body 8.6x3.9mm, Pitch 1.27mm, IPC Medium Density)
footprint M14A_L (SOIC, 14-Leads, Body 8.6x3.9mm, Pitch 1.27mm, IPC High Density)
footprint M14A_M (SOIC, 14-Leads, Body 8.6x3.9mm, Pitch 1.27mm, IPC Low Density)
pins on every part: 9 VEE (power), 13 VCC (power)
part A pins: 1 IN1 (in), 14 OUT1 (out)
part B pins: 3 IN2 (in), 12 OUT2 (out)
part C pins: 5 IN3 (in), 10 OUT3 (out)
part D pins: 7 IN4 (in), 8 OUT4 (out)
part E pins: 2 NC, 4 NC, 6 NC, 11 NC

## LMH6560MT
designator U?
Quad, High-Speed, Closed-Loop Buffer, 14-pin TSSOP; PartNumber: LMH6560MT; Manufacturer: National Semiconductor; PackageTopMarking: NSZXYTT*LMH65*60MT; PowerWise: N; CompType: Amplifiers; Published: 4-Dec-2008; DatasheetVersion: Dec-2004; PackageVersion: revD, Jun-2003; PackageReference: MTC14; Publisher: Altium Limited; PackageDescription: Molded TSSOP, JEDEC, 5 x 4.4 x 0.9mm Body, 14 Lead, 0.65mm Pitch; Supplier 1: Farnell; Supplier Part Number 1: 8181020; RoHS: Y; PinCount: 14; Code_JEDEC: MO-153-AB-1; ComponentLink1Description: LMH6560 Datasheet; ComponentLink1URL: http://www.national.com/ds/LM/LMH6560.pdf; ComponentLink2Description: LMH6560 Web Page; ComponentLink2URL: http://www.national.com/pf/LM/LMH6560.html; ComponentLink3Description: MTC14 Package Page; ComponentLink3URL: http://www.national.com/packaging/folders/mtc14.html
footprint MTC14_N (TSOP, 14-Leads, Body 5x4.4mm, Pitch 0.65mm, IPC Medium Density)
footprint MTC14_L (TSOP, 14-Leads, Body 5x4.4mm, Pitch 0.65mm, IPC High Density)
footprint MTC14_M (TSOP, 14-Leads, Body 5x4.4mm, Pitch 0.65mm, IPC Low Density)
pins on every part: 9 VEE (power), 13 VCC (power)
part A pins: 1 IN1 (in), 14 OUT1 (out)
part B pins: 3 IN2 (in), 12 OUT2 (out)
part C pins: 5 IN3 (in), 10 OUT3 (out)
part D pins: 7 IN4 (in), 8 OUT4 (out)
part E pins: 2 NC, 4 NC, 6 NC, 11 NC

## LMH6581VS
designator U?
8x4 500 MHz Analog Crosspoint Switch, Gain of 1, Gain of 2, 48-pin TQFP; PartNumber: LMH6581VS; Manufacturer: National Semiconductor; PackageTopMarking: NSUZXYTT*LMH6581*VS; PowerWise: N; CompType: Amplifiers; Published: 4-Dec-2008; DatasheetVersion: Sep-2007; PackageVersion: revA, Apr-2000; PackageReference: VBC48A; Publisher: Altium Limited; PackageDescription: TQFP, Jedec Metric, 7 x 7 x 1mm, 48 Lead, 0.5mm Pitch; RoHS: Y; PinCount: 48; Code_JEDEC: MS-026-ABC; ComponentLink1Description: LMH6581 Datasheet; ComponentLink1URL: http://www.national.com/ds/LM/LMH6581.pdf; ComponentLink2Description: LMH6581 Web Page; ComponentLink2URL: http://www.national.com/pf/LM/LMH6581.html; ComponentLink3Description: VBC48A Package Page; ComponentLink3URL: http://www.national.com/packaging/folders/vbc48a.html
footprint VBC48A_N (Thin QFP, 48-Leads, Body 7x7mm, Pitch 0.5mm, IPC Medium Density)
footprint VBC48A_L (Thin QFP, 48-Leads, Body 7x7mm, Pitch 0.5mm, IPC High Density)
footprint VBC48A_M (Thin QFP, 48-Leads, Body 7x7mm, Pitch 0.5mm, IPC Low Density)
part A pins: 2 OUT0 (out), 7 OUT1 (out), 9 RST (in), 10 MODE (in), 11 ~{CS} (in), 12 DIN (in), 13 DOUT (out), 14 CLK (in), 15 CFG (in), 16 BCST (in), 18 OUT2 (out), 23 OUT3 (out), 26 IN0 (in), 29 IN1 (in), 32 IN2 (in), 35 IN3 (in), 38 IN4 (in), 41 IN5 (in), 44 IN6 (in), 47 IN7 (in)
part B pins: 1 VEE (power), 3 GND (power), 4 VCC (power), 5 VCC (power), 6 GND (power), 8 VEE (power), 17 VEE (power), 19 GND (power), 20 VCC (power), 21 VCC (power), 22 GND (power), 24 VEE (power), 25 GND (power), 27 VEE (power), 28 VEE (power), 30 VCC (power), 31 VCC (power), 33 VEE (power), 34 GND (power), 36 GND (power), 37 GND (power), 39 GND (power), 40 VEE (power), 42 VCC (power), 43 VCC (power), 45 VEE (power), 46 VEE (power), 48 GND (power)

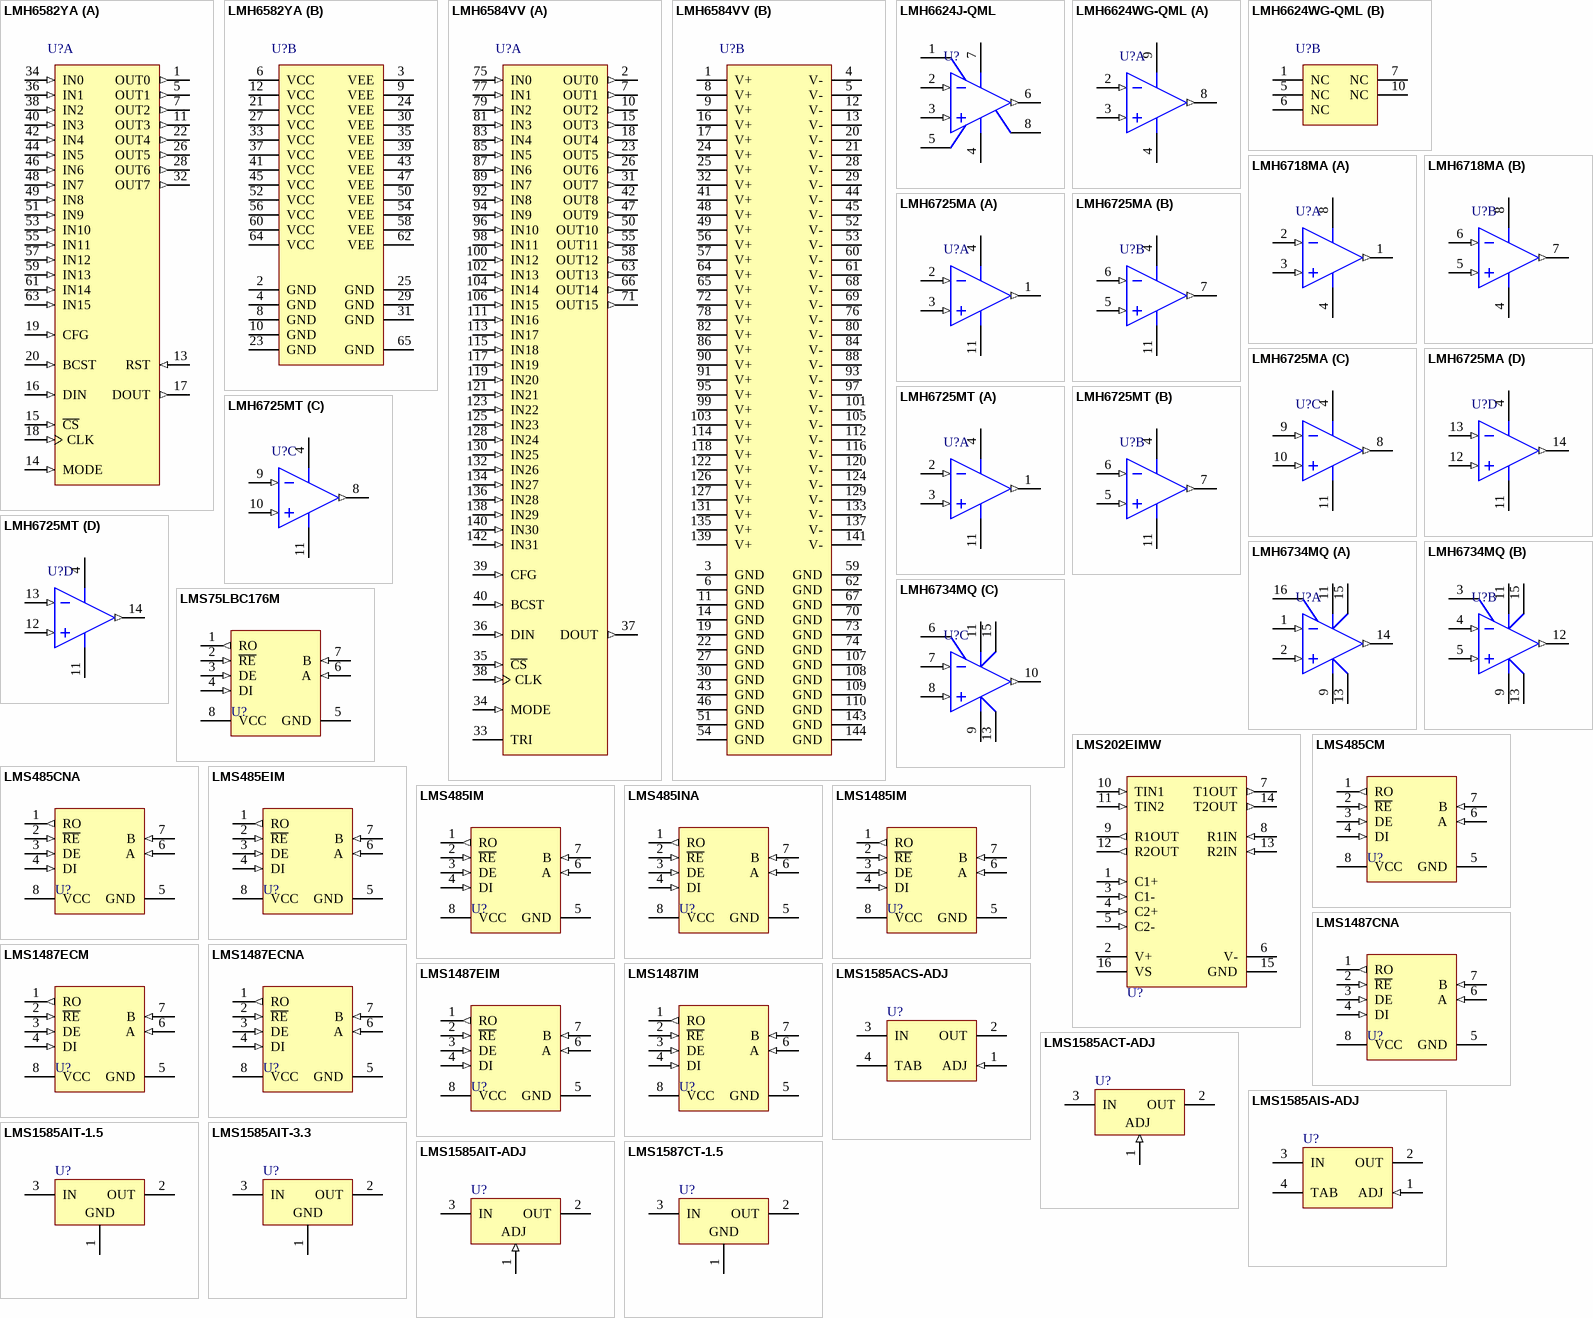
[diagram p16: symbols LMH6582YA to LMS1587CT-1.5]

## LMH6582YA
designator U?
16x8 550 MHz Analog Crosspoint Switch, Gain of 1, 65-pin TQFP-EP; PartNumber: LMH6582YA; Manufacturer: National Semiconductor; PackageTopMarking: NSUZXYYTT*LMH6582YA; PowerWise: N; CompType: Amplifiers; Published: 4-Dec-2008; DatasheetVersion: Aug-2007; PackageVersion: revA, May-2004; PackageReference: VXE64A; Publisher: Altium Limited; PackageDescription: TQFP, 10x10x1mm Body, 64 Lead, 0.5mm Pitch, Exposed Pad; RoHS: Y; PinCount: 64; Code_JEDEC: MS-026-ACD; ComponentLink1Description: LMH6582 Datasheet; ComponentLink1URL: http://www.national.com/ds/LM/LMH6582.pdf; ComponentLink2Description: LMH6582 Web Page; ComponentLink2URL: http://www.national.com/pf/LM/LMH6582.html; ComponentLink3Description: VXE64A Package Page; ComponentLink3URL: http://www.national.com/packaging/folders/vxe64a.html
footprint VXE64A_N (Thin QFP, 64-Leads, Body 10x10mm, Pitch 0.5mm, Exposed Pad, IPC Medium Density)
footprint VXE64A_L (Thin QFP, 64-Leads, Body 10x10mm, Pitch 0.5mm, Exposed Pad, IPC High Density)
footprint VXE64A_M (Thin QFP, 64-Leads, Body 10x10mm, Pitch 0.5mm, Exposed Pad, IPC Low Density)
part A pins: 1 OUT0 (out), 5 OUT1 (out), 7 OUT2 (out), 11 OUT3 (out), 13 RST (in), 14 MODE (in), 15 ~{CS} (in), 16 DIN (in), 17 DOUT (out), 18 CLK (in), 19 CFG (in), 20 BCST (in), 22 OUT4 (out), 26 OUT5 (out), 28 OUT6 (out), 32 OUT7 (out), 34 IN0 (in), 36 IN1 (in), 38 IN2 (in), 40 IN3 (in), 42 IN4 (in), 44 IN5 (in), 46 IN6 (in), 48 IN7 (in), 49 IN8 (in), 51 IN9 (in), 53 IN10 (in), 55 IN11 (in), 57 IN12 (in), 59 IN13 (in), 61 IN14 (in), 63 IN15 (in)
part B pins: 2 GND (power), 3 VEE (power), 4 GND (power), 6 VCC (power), 8 GND (power), 9 VEE (power), 10 GND (power), 12 VCC (power), 21 VCC (power), 23 GND (power), 24 VEE (power), 25 GND (power), 27 VCC (power), 29 GND (power), 30 VEE (power), 31 GND (power), 33 VCC (power), 35 VEE (power), 37 VCC (power), 39 VEE (power), 41 VCC (power), 43 VEE (power), 45 VCC (power), 47 VEE (power), 50 VEE (power), 52 VCC (power), 54 VEE (power), 56 VCC (power), 58 VEE (power), 60 VCC (power), 62 VEE (power), 64 VCC (power), 65 GND (power)

## LMH6584VV
designator U?
32x16 400 MHz Analog Crosspoint Switch, Gain of 1, 144-pin LQFP; PartNumber: LMH6584VV; Manufacturer: National Semiconductor; PackageTopMarking: NSUZXYYTTE#*LMH6584VV; PowerWise: N; CompType: Amplifiers; Published: 4-Dec-2008; DatasheetVersion: Oct-2008; PackageVersion: verA, Mar-2007; PackageReference: VNG144C; Publisher: Altium Limited; PackageDescription: LQFP, 20 x 20 x 1.4mm Body, 144 Lead, 0.5mm Pitch; RoHS: Y; PinCount: 144; Code_JEDEC: MS-026-BFB; ComponentLink1Description: LMH6584 Datasheet; ComponentLink1URL: http://www.national.com/ds/LM/LMH6584.pdf; ComponentLink2Description: LMH6584 Web Page; ComponentLink2URL: http://www.national.com/pf/LM/LMH6584.html; ComponentLink3Description: VNG144C Package Page; ComponentLink3URL: http://www.national.com/packaging/folders/vng144c.html
footprint VNG144C_N (Thin QFP, 144-Leads, Body 20x20mm, Pitch 0.5mm, IPC Medium Density)
footprint VNG144C_L (Thin QFP, 144-Leads, Body 20x20mm, Pitch 0.5mm, IPC High Density)
footprint VNG144C_M (Thin QFP, 144-Leads, Body 20x20mm, Pitch 0.5mm, IPC Low Density)
part A pins: 2 OUT0 (out), 7 OUT1 (out), 10 OUT2 (out), 15 OUT3 (out), 18 OUT4 (out), 23 OUT5 (out), 26 OUT6 (out), 31 OUT7 (out), 33 TRI, 34 MODE (in), 35 ~{CS} (in), 36 DIN (in), 37 DOUT (out), 38 CLK (in), 39 CFG (in), 40 BCST (in), 42 OUT8 (out), 47 OUT9 (out), 50 OUT10 (out), 55 OUT11 (out), 58 OUT12 (out), 63 OUT13 (out), 66 OUT14 (out), 71 OUT15 (out), 75 IN0 (in), 77 IN1 (in), 79 IN2 (in), 81 IN3 (in), 83 IN4 (in), 85 IN5 (in), 87 IN6 (in), 89 IN7 (in), 92 IN8 (in), 94 IN9 (in), 96 IN10 (in), 98 IN11 (in), 100 IN12 (in), 102 IN13 (in), 104 IN14 (in), 106 IN15 (in), 111 IN16 (in), 113 IN17 (in), 115 IN18 (in), 117 IN19 (in), 119 IN20 (in), 121 IN21 (in), 123 IN22 (in), 125 IN23 (in), 128 IN24 (in), 130 IN25 (in), 132 IN26 (in), 134 IN27 (in), 136 IN28 (in), 138 IN29 (in), 140 IN30 (in), 142 IN31 (in)
part B pins: 1 V+ (power), 3 GND (power), 4 V- (power), 5 V- (power), 6 GND (power), 8 V+ (power), 9 V+ (power), 11 GND (power), 12 V- (power), 13 V- (power), 14 GND (power), 16 V+ (power), 17 V+ (power), 19 GND (power), 20 V- (power), 21 V- (power), 22 GND (power), 24 V+ (power), 25 V+ (power), 27 GND (power), 28 V- (power), 29 V- (power), 30 GND (power), 32 V+ (power), 41 V+ (power), 43 GND (power), 44 V- (power), 45 V- (power), 46 GND (power), 48 V+ (power), 49 V+ (power), 51 GND (power), 52 V- (power), 53 V- (power), 54 GND (power), 56 V+ (power), 57 V+ (power), 59 GND (power), 60 V- (power), 61 V- (power), 62 GND (power), 64 V+ (power), 65 V+ (power), 67 GND (power), 68 V- (power), 69 V- (power), 70 GND (power), 72 V+ (power), 73 GND (power), 74 GND (power), 76 V- (power), 78 V+ (power), 80 V- (power), 82 V+ (power), 84 V- (power), 86 V+ (power), 88 V- (power), 90 V+ (power), 91 V+ (power), 93 V- (power), 95 V+ (power), 97 V- (power), 99 V+ (power), 101 V- (power), 103 V+ (power), 105 V- (power), 107 GND (power), 108 GND (power), 109 GND (power), 110 GND (power), 112 V- (power), 114 V+ (power), 116 V- (power), 118 V+ (power), 120 V- (power), 122 V+ (power), 124 V- (power), 126 V+ (power), 127 V+ (power), 129 V- (power), 131 V+ (power), 133 V- (power), 135 V+ (power), 137 V- (power), 139 V+ (power), 141 V- (power), 143 GND (power), 144 GND (power)

## LMH6624J-QML
designator U?
Single Ultra Low Noise Wideband Operational Amplifier, 8-pin CerDIP; PartNumber: LMH6624J-QML; Manufacturer: National Semiconductor; PackageTopMarking: NSZSSXXYYA*LMH6624J-*QML 5962-*0254401QPA Q; CompType: Amplifiers; Published: 4-Dec-2008; DatasheetVersion: Sep-2005; PackageVersion: revM, Jul-2002; PackageReference: J08A; Publisher: Altium Limited; PackageDescription: Cerdip, .400 x .310in Body, 8 Lead, .300in Centers, .100in Pitch; RoHS: N; PinCount: 8; ComponentLink1Description: LMH6624 Datasheet; ComponentLink1URL: http://www.national.com/ds/LM/LMH6624.pdf; ComponentLink2Description: LMH6624 Web Page; ComponentLink2URL: http://www.national.com/pf/LM/LMH6624.html; ComponentLink3Description: J08A Package Page; ComponentLink3URL: http://www.national.com/packaging/folders/j08a.html
footprint J08A (DIP, 8-Leads, Row Spacing 7.62mm, Pitch 2.54mm, Body 9.78x6.73mm)
pins: 1 NC, 2 IN- (in), 3 IN+ (in), 4 V- (power), 5 NC, 6 OUT (out), 7 V+ (power), 8 NC

## LMH6624WG-QML
designator U?
Single Ultra Low Noise Wideband Operational Amplifier, 10-pin CerPACK; PartNumber: LMH6624WG-QML; Manufacturer: National Semiconductor; PackageTopMarking: NS5962-02*54401QZA Q*LMH6624*WG-QML*ZSSXXYYA; PowerWise: Y; CompType: Amplifiers; Published: 29-May-2009; DatasheetVersion: Sep-2005; PackageVersion: revF, Oct-2008; PackageReference: WG10A; Publisher: Altium Limited; PackageDescription: Cerpack, .270 x .241 x .070in, 10 Lead, .050in Pitch, Gull Wing; RoHS: N; PinCount: 10; High-Reliability: Y; ComponentLink1Description: LMH6624 Datasheet; ComponentLink1URL: http://www.national.com/ds/LM/LMH6624.pdf; ComponentLink2Description: LMH6624 Web Page; ComponentLink2URL: http://www.national.com/pf/LM/LMH6624.html; ComponentLink3Description: WG10A Package Page; ComponentLink3URL: http://www.national.com/packaging/folders/wg10a.html
footprint WG10A_N (CERPACK, 10-Leads, Body 6.9x6.3mm, Pitch 1.27mm, IPC Medium Density)
footprint WG10A_L (CERPACK, 10-Leads, Body 6.9x6.3mm, Pitch 1.27mm, IPC High Density)
footprint WG10A_M (CERPACK, 10-Leads, Body 6.9x6.3mm, Pitch 1.27mm, IPC Low Density)
simulation model LMH6624 (SUBCKT)
part A pins: 2 IN- (in), 3 IN+ (in), 4 V- (power), 8 OUT (out), 9 V+ (power)
part B pins: 1 NC, 5 NC, 6 NC, 7 NC, 10 NC

## LMH6718MA
designator U?
Dual, High Output, Selectable Gain Buffer, 8-pin Narrow SOIC; PartNumber: LMH6718MA; Manufacturer: National Semiconductor; PackageTopMarking: NSZXTT*LMH67*18MA; PowerWise: N; CompType: Amplifiers; Published: 4-Dec-2008; LatestRevisionDate: 13-Jan-2009; LatestRevisionNote: Sim Model Added.; DatasheetVersion: Sep-2006; PackageVersion: revM, May-2009; PackageReference: M08A; Publisher: Altium Limited; PackageDescription: SOIC Narrow, 4.9 x 3.9 x 1.45mm, 8 Lead, 1.27mm Pitch; Supplier 1: Farnell; Supplier Part Number 1: 8181039; RoHS: O; PinCount: 8; Code_JEDEC: MS-012-AA; Code_IPC: SOIC127P600-8; ComponentLink1Description: LMH6718 Datasheet; ComponentLink1URL: http://www.national.com/ds/LM/LMH6718.pdf; ComponentLink2Description: LMH6718 Web Page; ComponentLink2URL: http://www.national.com/pf/LM/LMH6718.html; ComponentLink3Description: M08A Package Page; ComponentLink3URL: http://www.national.com/packaging/folders/m08a.html
footprint M08A_N (SOIC, 8-Leads, Body 4.9x3.9mm, Pitch 1.27mm, IPC Medium Density)
footprint M08A_L (SOIC, 8-Leads, Body 4.9x3.9mm, Pitch 1.27mm, IPC High Density)
footprint M08A_M (SOIC, 8-Leads, Body 4.9x3.9mm, Pitch 1.27mm, IPC Low Density)
simulation model LMH6718 (SUBCKT)
pins on every part: 4 VCC- (power), 8 VCC+ (power)
part A pins: 1 OUT1 (out), 2 IN1- (in), 3 IN1+ (in)
part B pins: 5 IN2+ (in), 6 IN2- (in), 7 OUT2 (out)

## LMH6725MA
designator U?
Single/Quad 370 MHz 1 mA Current Feedback Op Amp, 14-pin Narrow SOIC; PartNumber: LMH6725MA; Manufacturer: National Semiconductor; PackageTopMarking: NSUZXYTT*LMH67*25MA; PowerWise: Y; CompType: Amplifiers; Published: 4-Dec-2008; LatestRevisionDate: 13-Jan-2009; LatestRevisionNote: Sim Model Added.; DatasheetVersion: Aug-2005; PackageVersion: revJ, Jan-1996; PackageReference: M14A; Publisher: Altium Limited; PackageDescription: Molded Package S.O., .150in Wide, 14 Lead; Supplier 1: Farnell; Supplier Part Number 1: 8180946; RoHS: Y; PinCount: 14; Code_JEDEC: MS-012AB; Code_IPC: SOIC127P600-14; ComponentLink1Description: LMH6725 Datasheet; ComponentLink1URL: http://www.national.com/ds/LM/LMH6725.pdf; ComponentLink2Description: LMH6725 Web Page; ComponentLink2URL: http://www.national.com/pf/LM/LMH6725.html; ComponentLink3Description: M14A Package Page; ComponentLink3URL: http://www.national.com/packaging/folders/m14a.html
footprint M14A_N (SOIC, 14-Leads, Body 8.6x3.9mm, Pitch 1.27mm, IPC Medium Density)
footprint M14A_L (SOIC, 14-Leads, Body 8.6x3.9mm, Pitch 1.27mm, IPC High Density)
footprint M14A_M (SOIC, 14-Leads, Body 8.6x3.9mm, Pitch 1.27mm, IPC Low Density)
simulation model LMH6723 (SUBCKT)
pins on every part: 4 V+ (power), 11 V- (power)
part A pins: 1 OUTA (out), 2 INA- (in), 3 INA+ (in)
part B pins: 5 INB+ (in), 6 INB- (in), 7 OUTB (out)
part C pins: 8 OUTC (out), 9 INC- (in), 10 INC+ (in)
part D pins: 12 IND+ (in), 13 IND- (in), 14 OUTD (out)